# Altium footprint library MAXIM TSSOP28-EP.PCBLIB: 1 footprints
Each footprint in its own frame and in the unit in brackets; x right, y up, seen from the top. Pads: shape width x height; smd on the part's side, far side on the other; paste and mask are expansions set on the pad; w line width, h text height; cw(c..) or ccw(c..) is an arc to the next point about the centre after c.
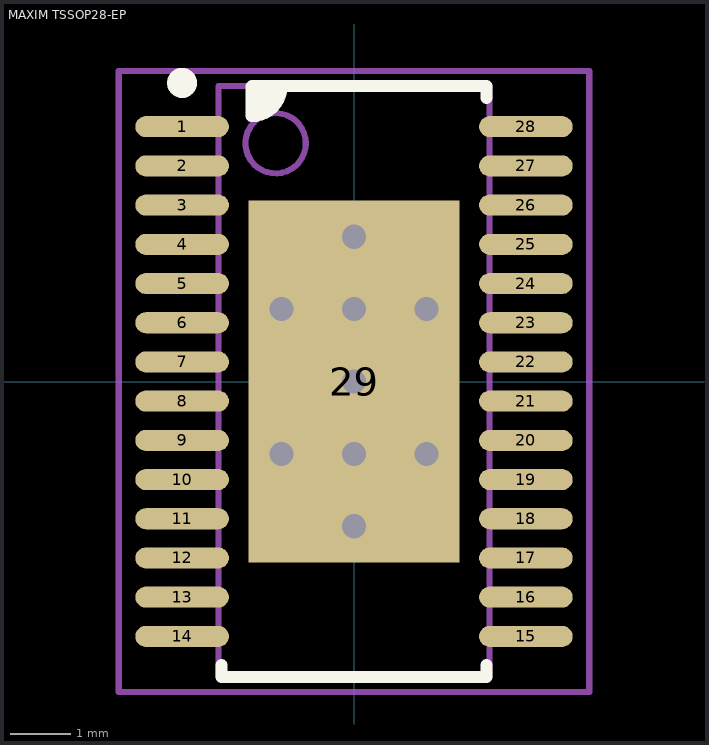
[diagram p0: the footprint, top view; thin cyan lines are the x and y axes]

## MAXIM TSSOP28-EP [mm] "TSSOP, 28-Leads, Body 9.8x4.5mm (max), Pitch 0.65mm, IPC Medium Density"
height 1.1
pads (29):
  oval 1.55x0.35 smd: 1(-2.85,4.225) 2(-2.85,3.575) 3(-2.85,2.925) 4(-2.85,2.275) 5(-2.85,1.625) 6(-2.85,0.975) 7(-2.85,0.325) 8(-2.85,-0.325) 9(-2.85,-0.975) 10(-2.85,-1.625) 11(-2.85,-2.275) 12(-2.85,-2.925) 13(-2.85,-3.575) 14(-2.85,-4.225) 15(2.85,-4.225) 16(2.85,-3.575) 17(2.85,-2.925) 18(2.85,-2.275) 19(2.85,-1.625) 20(2.85,-0.975) 21(2.85,-0.325) 22(2.85,0.325) 23(2.85,0.975) 24(2.85,1.625) 25(2.85,2.275) 26(2.85,2.925) 27(2.85,3.575) 28(2.85,4.225)
  rect 3.5x6 smd: 29(0,0)
via 0,-2.4 diameter 0.8 hole 0.4
via 1.2,-1.2 diameter 0.8 hole 0.4
via 0,-1.2 diameter 0.8 hole 0.4
via -1.2,-1.2 diameter 0.8 hole 0.4
via 0,0 diameter 0.8 hole 0.4
via 1.2,1.2 diameter 0.8 hole 0.4
via 0,1.2 diameter 0.8 hole 0.4
via -1.2,1.2 diameter 0.8 hole 0.4
via 0,2.4 diameter 0.8 hole 0.4
Top Overlay:
  circle w0.25: c-2.85,4.95 r0.125
  region: -1.2,4.9 -1.675,4.9 -1.7,4.875 -1.7,4.4 -1.5,4.4 -1.2,4.7
  lines w0.2: -2.2,-4.7 -2.2,-4.9 2.2,-4.9 2.2,-4.7 ; 2.2,4.7 2.2,4.9 -1.675,4.9 ccw(c-1.675,4.875) -1.7,4.875 -1.7,4.4 ccw(c-1.7,4.9) -1.2,4.9 ; -1.2,4.9 -1.2,4.9
Mechanical 13:
  circle w0.1: c-1.3,3.95 r0.5
  lines w0.1: -2.25,-4.9 2.25,-4.9 2.25,4.9 -2.25,4.9 -2.25,-4.9
Mechanical 15:
  lines w0.1: -0.5,0 0.5,0 ; 0,-0.5 0,0.5 ; -3.9,-5.15 3.9,-5.15 3.9,5.15 -3.9,5.15 -3.9,-5.15
3D body "TSSOP-28.STEP": height 1.2, standoff 0, extent -3.21,-4.85 3.211,4.85